# Altium schematic symbol library fan_control.SchLib: 2 symbols
Pins are listed as number, name and electrical type; pins without a type are passive.

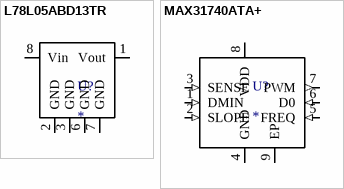
[diagram p0: symbols L78L05ABD13TR to MAX31740ATA+]

## L78L05ABD13TR
designator U?
Positive voltage regulator 5V, SO8
footprint SOIC8
pins: 1 Vout, 2 GND, 3 GND, 6 GND, 7 GND, 8 Vin

## MAX31740ATA+
designator U?
Ultra-Simple Fan-Speed Controller
footprint TDFN-8 0.5mm (TDFN, 8 Pin, 0.5mm Spacing)
pins: 1 DMIN (in) "Connect to an external resistor divider to set the minimum active PWM duty cycle. (Typically between 0.05VDD to 0.2VDD depending on desired minimum duty cycle.)", 2 SLOPE (in) "Connect to an external resistor to set the slope of the temperature-PWM curve.", 3 SENSE (in) "Thermistor Voltage Input. External NTC thermistor senses temperature. Thermistor and external resistor form a voltage divider with a negative temperature coefficient.", 4 GND (power) "Ground", 5 FREQ (in) "Connect to external capacitor CF to set PWM frequency.", 6 D0 (in) "Duty Cycle Input. Sets the duty cycle below tMIN to either DMIN or 0%. Connect to GND for 0% or to VDD for DMIN. D0 has an internal 60kΩ (typ) pulldown resistor.", 7 PWM (out) "WM CMOS output signal.", 8 VDD (power) "3.0V to 5.5V Supply Voltage Input. Bypass with at least a 0.01μF capacitor.", 9 EP "Exposed Pad. Connect to ground, but do not use as the sole ground connection point orleave unconnected."